# EAGLE library part MORNTA1002AT5 (library RESISTORS)
Molded, Compact, 0.65 mm Pitch, Dual-In-Line Thin Film Resistor, Surface-Mount Network 0.01 % Ratio Tolerance and 1 ppm/°C TCR Tracking
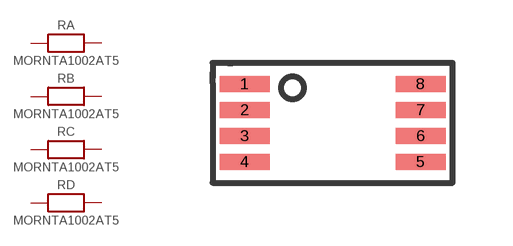
[diagram p3: symbol with the pads of MSOP8; footprint MSOP8]

Designator prefix R; gates A=RESISTOR B=RESISTOR C=RESISTOR D=RESISTOR

## MORNTA1002AT5 (DIGIKEY: 541-2492-1-ND; HEIGHT: 2; PRICE_PER: 3.01; VALUE: 10k)  [MSOP8]
1  A:1
2  B:1
3  C:1
4  D:2
5  D:1
6  C:2
7  B:2
8  A:2

## Footprint MSOP8 (pad centres in mm)
smd 1.25 x 0.4: 1 -2.2,0.975; 2 -2.2,0.325; 3 -2.2,-0.325; 4 -2.2,-0.975; 5 2.2,-0.975; 6 2.2,-0.325; 7 2.2,0.325; 8 2.2,0.975